# Altium footprint library Capacitors THD.PcbLib: 270 footprints (part 14 of 17)
Each footprint in its own frame and in the unit in brackets; x right, y up, seen from the top. Pads: shape width x height; smd on the part's side, far side on the other; paste and mask are expansions set on the pad; w line width, h text height; cw(c..) or ccw(c..) is an arc to the next point about the centre after c.
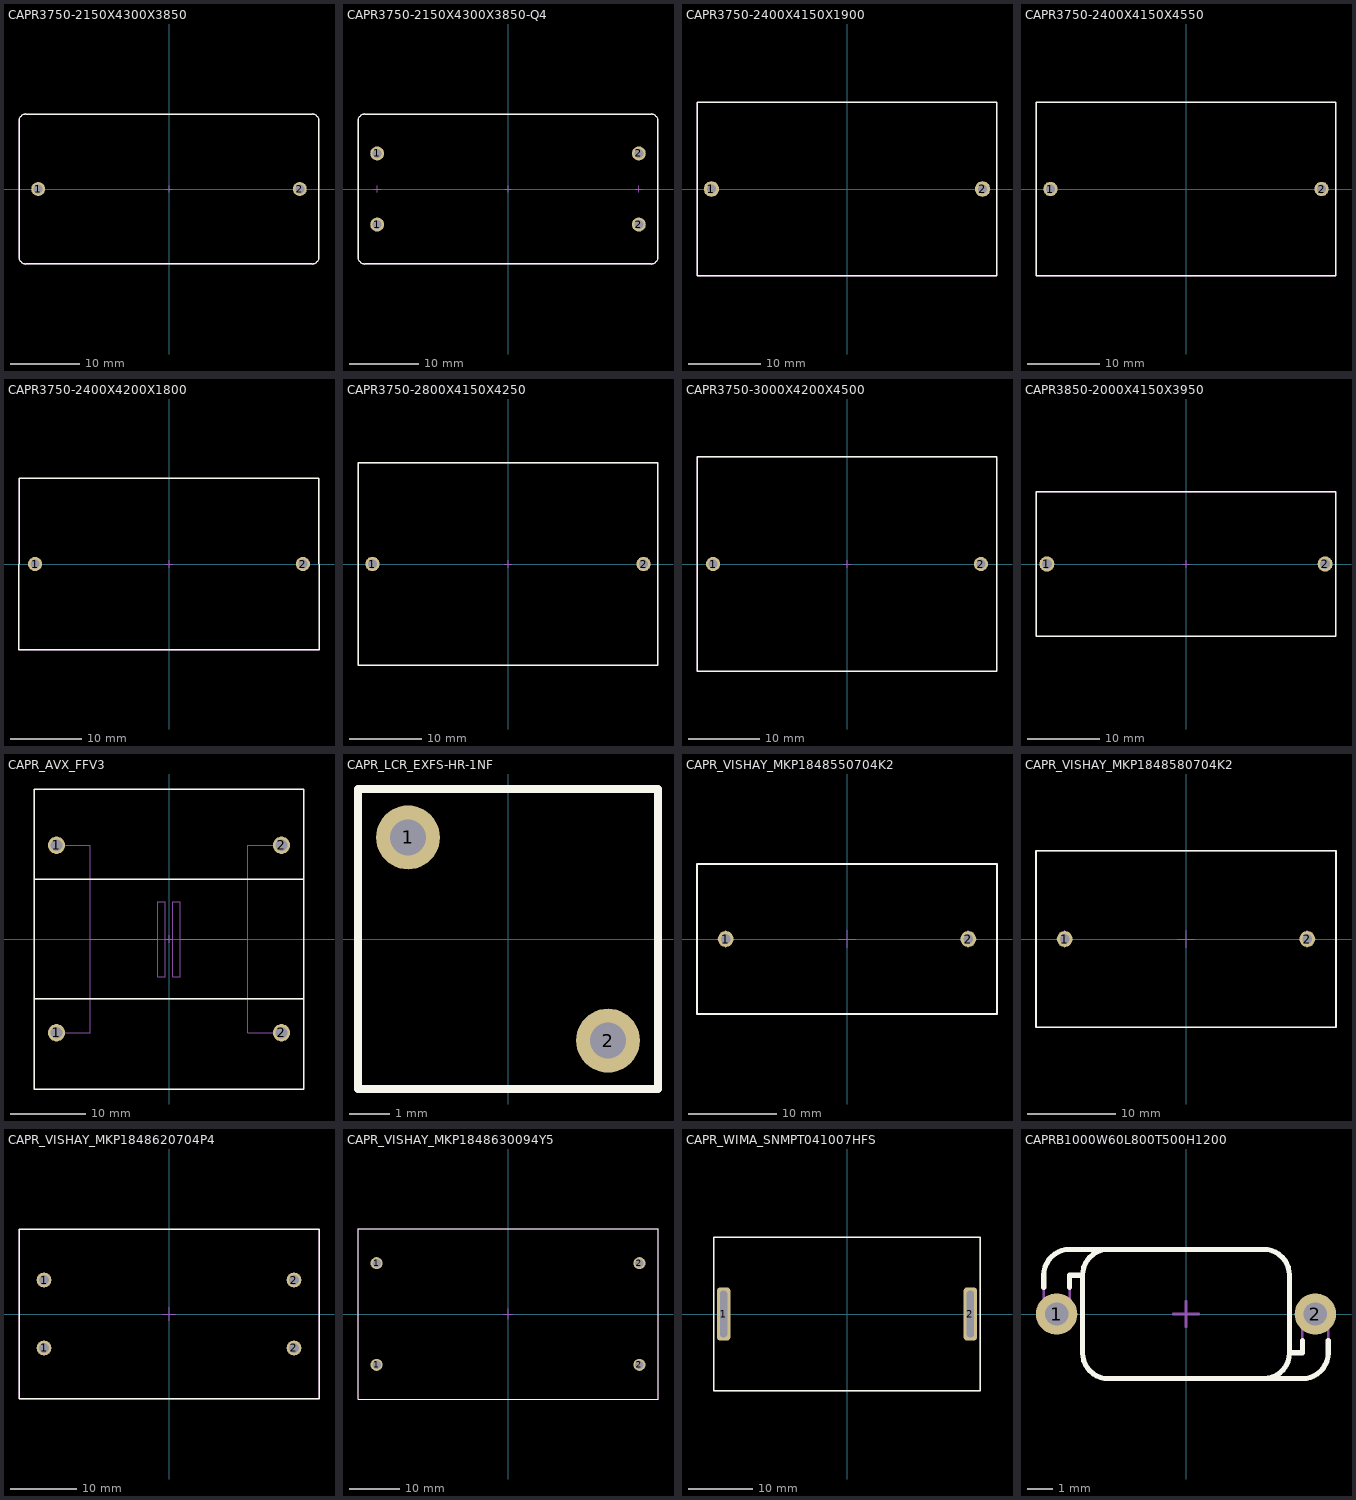
[diagram p13: the footprints below, top view; thin cyan lines are the x and y axes]

## CAPR3750-2150X4300X3850 [mm] "Capacitor Radial, Pin spacing 37.5mm, Body Width 21.5mm X Body Length 43mm X Body Height 38.5mm"
height 38.5
pads (2):
  round 2 hole 1.3: 1(-18.75,0) 2(18.75,0)
Top Overlay:
  lines w0.2: -21.5,-9.75 ccw(c-20.5,-9.75) -20.5,-10.75 20.5,-10.75 ccw(c20.5,-9.75) 21.5,-9.75 21.5,9.75 ccw(c20.5,9.75) 20.5,10.75 -20.5,10.75 ccw(c-20.5,9.75) -21.5,9.75 -21.5,-9.75
Mechanical 8:
  lines w0.05: -19.25,0 -18.75,0 ; -18.75,-0.5 -18.75,0 ; -18.75,0.5 -18.75,0 ; -18.25,0 -18.75,0 ; -0.5,0 0,0 ; 0,-0.5 0,0 ; 0,0.5 0,0 ; 0.5,0 0,0 ; 18.25,0 18.75,0 ; 18.75,-0.5 18.75,0 ; 18.75,0.5 18.75,0 ; 19.25,0 18.75,0
Mechanical 14:
  lines w0.1: -21.5,-9.75 ccw(c-20.5,-9.75) -20.5,-10.75 20.5,-10.75 ccw(c20.5,-9.75) 21.5,-9.75 21.5,9.75 ccw(c20.5,9.75) 20.5,10.75 -20.5,10.75 ccw(c-20.5,9.75) -21.5,9.75 -21.5,-9.75
3D body "CAPR3750-2150X4300X3850.stp": height 38.5, standoff -3.8, extent -21.5,-10.75 21.5,10.75

## CAPR3750-2150X4300X3850-Q4 [mm] "Capacitor Radial, 4 Pin spacing 37.5mm X 10.2mm, Body Width 21.5mm X Body Length 43mm X Body Height 38.5mm"
height 38.5
pads (4):
  round 2 hole 1.3: 1(-18.75,-5.1) 1(-18.75,5.1) 2(18.75,-5.1) 2(18.75,5.1)
Top Overlay:
  lines w0.2: -21.5,-9.75 ccw(c-20.5,-9.75) -20.5,-10.75 20.5,-10.75 ccw(c20.5,-9.75) 21.5,-9.75 21.5,9.75 ccw(c20.5,9.75) 20.5,10.75 -20.5,10.75 ccw(c-20.5,9.75) -21.5,9.75 -21.5,-9.75
Mechanical 8:
  lines w0.05: -19.25,-5.1 -18.75,-5.1 ; -19.25,0 -18.75,0 ; -19.25,5.1 -18.75,5.1 ; -18.75,-5.6 -18.75,-5.1 ; -18.75,-4.6 -18.75,-5.1 ; -18.75,-0.5 -18.75,0 ; -18.75,0.5 -18.75,0 ; -18.75,4.6 -18.75,5.1 ; -18.75,5.6 -18.75,5.1 ; -18.25,-5.1 -18.75,-5.1 ; -18.25,0 -18.75,0 ; -18.25,5.1 -18.75,5.1 ; -0.5,0 0,0 ; 0,-0.5 0,0 ; 0,0.5 0,0 ; 0.5,0 0,0 ; 18.25,-5.1 18.75,-5.1 ; 18.25,0 18.75,0 ; 18.25,5.1 18.75,5.1 ; 18.75,-5.6 18.75,-5.1 ; 18.75,-4.6 18.75,-5.1 ; 18.75,-0.5 18.75,0 ; 18.75,0.5 18.75,0 ; 18.75,4.6 18.75,5.1 ; 18.75,5.6 18.75,5.1 ; 19.25,-5.1 18.75,-5.1 ; 19.25,0 18.75,0 ; 19.25,5.1 18.75,5.1
Mechanical 14:
  lines w0.1: -21.5,-9.75 ccw(c-20.5,-9.75) -20.5,-10.75 20.5,-10.75 ccw(c20.5,-9.75) 21.5,-9.75 21.5,9.75 ccw(c20.5,9.75) 20.5,10.75 -20.5,10.75 ccw(c-20.5,9.75) -21.5,9.75 -21.5,-9.75
3D body "CAPR3750-2150X4300X3850-Q4.stp": height 38.5, standoff -3.8, extent -21.5,-10.75 21.5,10.75

## CAPR3750-2400X4150X1900 [mm] "Capacitor Radial, Pin spacing 37.5mm - Body With 24mm X Body Length 41.5mm X Body Height 19mm"
height 19
pads (2):
  round 2.15 hole 1.3: 1(-18.75,0) 2(18.75,0)
Top Overlay:
  lines w0.2: -20.75,-12 20.75,-12 20.75,12 -20.75,12 -20.75,-12
Mechanical 13:
  lines w0.1: -20.75,-12 -20.75,12 20.75,12 20.75,-12 -20.75,-12
Mechanical 14:
  lines w0.1: -20.75,-12 20.75,-12 20.75,12 -20.75,12 -20.75,-12
3D body "CAPR3750-2400X4150X1900.stp": height 19, standoff -3.8, extent -20.75,-12 20.75,12

## CAPR3750-2400X4150X4550 [mm] "Capacitor Radial, Pin spacing 37.5mm - Body With 24mm X Body Length 41.5mm X Body Height 45.5mm"
height 45.5
pads (2):
  round 2 hole 1.3: 1(-18.75,0) 2(18.75,0)
Top Overlay:
  lines w0.2: -20.75,-12 20.75,-12 20.75,12 -20.75,12 -20.75,-12
Mechanical 13:
  lines w0.1: -20.75,-12 -20.75,12 20.75,12 20.75,-12 -20.75,-12
Mechanical 14:
  lines w0.1: -20.75,-12 20.75,-12 20.75,12 -20.75,12 -20.75,-12
3D body "CAPR3750-2400X4150X4550.stp": height 45.5, standoff -3.8, extent -20.75,-12 20.75,12

## CAPR3750-2400X4200X1800 [mm] "Capacitor Radial, Pin spacing 37.5mm - Body With 24mm X Body Length 42mm X Body Height 18mm"
height 18
pads (2):
  round 2 hole 1.3: 1(-18.75,0) 2(18.75,0)
Top Overlay:
  lines w0.2: -21,-12 21,-12 20.994,12 -20.994,12 -21,-12
Mechanical 8:
  lines w0.1: -19.25,0 -18.75,0 ; -18.75,-0.5 -18.75,0 ; -18.75,0.5 -18.75,0 ; -18.25,0 -18.75,0 ; -0.5,0 0,0 ; 0,-0.5 0,0 ; 0,0.5 0,0 ; 0.5,0 0,0 ; 18.25,0 18.75,0 ; 18.75,-0.5 18.75,0 ; 18.75,0.5 18.75,0 ; 19.25,0 18.75,0
Mechanical 14:
  lines w0.1: -21,-12 21,-12 20.994,12 -20.994,12 -21,-12
3D body "CAPR3750-2400X4200X1800.stp": height 18, standoff -3.2, extent -21,-12 21,12

## CAPR3750-2800X4150X4250 [mm] "Capacitor Radial, Pin spacing 37.5mm - Body With 28mm X Body Length 41.5mm X Body Height 42.5mm"
height 42.5
pads (2):
  round 2 hole 1.3: 1(-18.75,0) 2(18.75,0)
Top Overlay:
  lines w0.2: -20.75,-14 20.75,-14 20.75,14 -20.75,14 -20.75,-14
Mechanical 8:
  lines w0.1: -19.25,0 -18.75,0 ; -18.75,-0.5 -18.75,0 ; -18.75,0.5 -18.75,0 ; -18.25,0 -18.75,0 ; -0.5,0 0,0 ; 0,-0.5 0,0 ; 0,0.5 0,0 ; 0.5,0 0,0 ; 18.25,0 18.75,0 ; 18.75,-0.5 18.75,0 ; 18.75,0.5 18.75,0 ; 19.25,0 18.75,0
Mechanical 14:
  lines w0.1: -20.75,-14 20.75,-14 20.75,14 -20.75,14 -20.75,-14
3D body "CAPR3750-2800X4150X4250.stp": height 42.5, standoff -3.8, extent -20.75,-14 20.75,14

## CAPR3750-3000X4200X4500 [mm] "Capacitor Radial, Pin spacing 37.5mm, Body Width 30mm X Body Length 42mm X Body Height 45mm"
height 45
pads (2):
  round 2 hole 1.3: 1(-18.75,0) 2(18.75,0)
Top Overlay:
  lines w0.2: -21,-15 21,-15 21,15 -21,15 -21,-15
Mechanical 8:
  lines w0.1: -0.5,0 0,0 ; 0,-0.5 0,0 ; 0,0.5 0,0 ; 0.5,0 0,0
Mechanical 14:
  lines w0.1: -21,-15 21,-15 21,15 -21,15 -21,-15
3D body "CAPR3750-3000X4200X4500.stp": height 45, standoff -3.8, extent -21,-15 21,15

## CAPR3850-2000X4150X3950 [mm] "Capacitor Radial, Pin spacing 38.5mm - Body With 20mm X Body Length 41.5mm X Body Height 39.5mm"
height 39.5
pads (2):
  round 2.1 hole 1.4: 1(-19.25,0) 2(19.25,0)
Top Overlay:
  lines w0.2: -20.75,-10 20.75,-10 20.75,10 -20.75,10 -20.75,-10
Mechanical 8:
  lines w0.05: -19.75,0 -19.25,0 ; -19.25,-0.5 -19.25,0 ; -19.25,0.5 -19.25,0 ; -18.75,0 -19.25,0 ; -0.5,0 0,0 ; 0,-0.5 0,0 ; 0,0.5 0,0 ; 0.5,0 0,0 ; 18.75,0 19.25,0 ; 19.25,-0.5 19.25,0 ; 19.25,0.5 19.25,0 ; 19.75,0 19.25,0
Mechanical 14:
  lines w0.1: -20.75,-10 20.75,-10 20.75,10 -20.75,10 -20.75,-10
3D body "CAPR3850-2000X4150X3950.stp": height 39.5, standoff -3.69, extent -20.75,-10 20.75,10

## CAPR_AVX_FFV3 [mm] "Capacitor Radial, 4 Pin spacing 30mm X 25mm, Body Width 36mm X Body Length 40mm X Body Height 40mm"
height 40
pads (4):
  round 2.3 hole 1.6: 1(-15,-12.5) 1(-15,12.5) 2(15,-12.5) 2(15,12.5)
Top Overlay:
  lines w0.2: -18,-8 18,-8 ; -18,8 18,8 ; -18,-20 -18,20 18,20 18,-20 -18,-20
Mechanical 8:
  lines w0.05: -0.5,0 0,0 ; 0,-0.5 0,0 ; 0,0.5 0,0 ; 0.5,0 0,0
  lines w0.1: -15.5,-12.5 -15,-12.5 ; -15.5,12.5 -15,12.5 ; -15,-13 -15,-12.5 ; -15,-12 -15,-12.5 ; -15,12 -15,12.5 ; -15,13 -15,12.5 ; -14.5,-12.5 -15,-12.5 ; -14.5,12.5 -15,12.5 ; -10.5,0 -1.5,0 ; -0.5,0 0,0 ; 0,-0.5 0,0 ; 0,0.5 0,0 ; 0.5,0 0,0 ; 1.5,0 10.5,0 ; 14.5,-12.5 15,-12.5 ; 14.5,12.5 15,12.5 ; 15,-13 15,-12.5 ; 15,-12 15,-12.5 ; 15,12 15,12.5 ; 15,13 15,12.5 ; 15.5,-12.5 15,-12.5 ; 15.5,12.5 15,12.5 ; -15,-12.5 -10.5,-12.5 -10.5,12.5 -15,12.5 ; 15,-12.5 10.5,-12.5 10.5,12.5 15,12.5 ; -1.5,-5 -1.5,5 -0.5,5 -0.5,-5 -1.5,-5 ; 0.5,-5 0.5,5 1.5,5 1.5,-5 0.5,-5
Mechanical 14:
  lines w0.1: -18,-8 18,-8 ; -18,8 18,8 ; -18,-20 18,-20 18,20 -18,20 -18,-20
3D body "CAPR_AVX_FFV3.stp": height 40, standoff -4.5, extent -18,-20 18,20

## CAPR_LCR_EXFS-HR-1NF [mm] "Capacitor Radial, Pin spacing 5.08mm X 5.08mm - Body With 7.5mm X Body Length 7.5mm X Body Height 13mm"
height 9
pads (2):
  round 1.6 hole 0.9: 1(-2.5,2.54) 2(2.5,-2.54)
Top Overlay:
  lines w0.2: -3.75,-3.75 3.75,-3.75 3.75,3.75 -3.75,3.75 -3.75,-3.75
Mechanical 14:
  lines w0.1: -3.75,-3.75 3.75,-3.75 3.75,3.75 -3.75,3.75 -3.75,-3.75
3D body "CAPR_LCR_EXFS-HR-1NF.stp": height 13, standoff -3.6, extent -3.749,-3.749 3.751,3.751

## CAPR_VISHAY_MKP1848550704K2 [mm] "Capacitor Radial, Pin spacing 27.5mm - Body With 15mm X Body Length 32mm X Body Height 25.5mm"
height 25.5
pads (2):
  round 1.8 hole 1.1: 1(-13.75,0) 2(13.75,0)
Top Overlay:
  lines w0.2: -17,-8.5 17,-8.5 17,8.5 -17,8.5 -17,-8.5
Mechanical 8:
  lines w0.05: -14.75,0 -13.75,0 ; -13.75,-1 -13.75,0 ; -13.75,1 -13.75,0 ; -12.75,0 -13.75,0 ; -1,0 0,0 ; 0,-1 0,0 ; 0,1 0,0 ; 1,0 0,0 ; 12.75,0 13.75,0 ; 13.75,-1 13.75,0 ; 13.75,1 13.75,0 ; 14.75,0 13.75,0
Mechanical 14:
  lines w0.1: -17,-8.5 17,-8.5 17,8.5 -17,8.5 -17,-8.5
3D body "CAPR_VISHAY_MKP1848550704K2.stp": height 25.5, standoff -4, extent -17,-8.5 17,8.5

## CAPR_VISHAY_MKP1848580704K2 [mm] "Capacitor Radial, Pin spacing 27.5mm - Body With 18mm X Body Length 32mm X Body Height 28.5mm"
height 28.5
pads (2):
  round 1.8 hole 1.1: 1(-13.75,0) 2(13.75,0)
Top Overlay:
  lines w0.2: -17,-10 17,-10 17,10 -17,10 -17,-10
Mechanical 8:
  lines w0.05: -14.75,0 -13.75,0 ; -13.75,-1 -13.75,0 ; -13.75,1 -13.75,0 ; -12.75,0 -13.75,0 ; -1,0 0,0 ; 0,-1 0,0 ; 0,1 0,0 ; 1,0 0,0 ; 12.75,0 13.75,0 ; 13.75,-1 13.75,0 ; 13.75,1 13.75,0 ; 14.75,0 13.75,0
Mechanical 14:
  lines w0.1: -17,-10 17,-10 17,10 -17,10 -17,-10
3D body "CAPR_VISHAY_MKP1848580704K2.stp": height 25.5, standoff -4, extent -17,-10 17,10

## CAPR_VISHAY_MKP1848620704P4 [mm] "Capacitor Radial, Pin spacing 37.5.5X10.2mm - Body With 21.5mm X Body Length 43mm X Body Height 39mm"
height 39
pads (4):
  round 2.2 hole 1.5: 1(-18.75,-5.1) 1(-18.75,5.1) 2(18.75,-5.1) 2(18.75,5.1)
Top Overlay:
  lines w0.2: -22.5,-12.75 -22.5,12.75 22.5,12.75 22.5,-12.75 -22.5,-12.75
Mechanical 8:
  lines w0.1: -19.75,-5.1 -18.75,-5.1 ; -19.75,5.1 -18.75,5.1 ; -18.75,-6.1 -18.75,-5.1 ; -18.75,-4.1 -18.75,-5.1 ; -18.75,4.1 -18.75,5.1 ; -18.75,6.1 -18.75,5.1 ; -17.75,-5.1 -18.75,-5.1 ; -17.75,5.1 -18.75,5.1 ; -1,0 0,0 ; 0,-1 0,0 ; 0,1 0,0 ; 1,0 0,0 ; 17.75,-5.1 18.75,-5.1 ; 17.75,5.1 18.75,5.1 ; 18.75,-6.1 18.75,-5.1 ; 18.75,-4.1 18.75,-5.1 ; 18.75,4.1 18.75,5.1 ; 18.75,6.1 18.75,5.1 ; 19.75,-5.1 18.75,-5.1 ; 19.75,5.1 18.75,5.1
Mechanical 14:
  lines w0.1: -22.5,-12.75 -22.5,12.75 22.5,12.75 22.5,-12.75 -22.5,-12.75
3D body "CAPR_VISHAY_MKP1848620704P4.stp": height 39, standoff -4, extent -22.5,-12.75 22.5,12.75

## CAPR_VISHAY_MKP1848630094Y5 [mm] "Capacitor Radial, Pin spacing 52.5X20.3mm - Body With 30mm X Body Length 57.5mm X Body Height 45mm"
height 45
pads (4):
  round 2.4 hole 1.7: 1(-26.25,-10.15) 1(-26.25,10.15) 2(26.25,-10.15) 2(26.25,10.15)
Top Overlay:
  lines w0.2: -29.95,-17 29.95,-17 29.95,17 -29.95,17 -29.95,-17
Mechanical 8:
  lines w0.1: -26.25,-10.15 -26.25,-9.15 -26.25,-10.15 ; -26.25,-10.15 -25.25,-10.15 -26.25,-10.15 ; -26.25,-10.15 -27.25,-10.15 -26.25,-10.15 ; -26.25,-10.15 -26.25,-11.15 -26.25,-10.15 ; -26.25,10.15 -26.25,11.15 -26.25,10.15 ; -26.25,10.15 -25.25,10.15 -26.25,10.15 ; -26.25,10.15 -27.25,10.15 -26.25,10.15 ; -26.25,10.15 -26.25,9.15 -26.25,10.15 ; 0,0 0,1 0,0 ; 0,0 1,0 0,0 ; 0,0 -1,0 0,0 ; 0,0 0,-1 0,0 ; 26.25,-10.15 26.25,-9.15 26.25,-10.15 ; 26.25,-10.15 27.25,-10.15 26.25,-10.15 ; 26.25,-10.15 25.25,-10.15 26.25,-10.15 ; 26.25,-10.15 26.25,-11.15 26.25,-10.15 ; 26.25,10.15 26.25,11.15 26.25,10.15 ; 26.25,10.15 27.25,10.15 26.25,10.15 ; 26.25,10.15 25.25,10.15 26.25,10.15 ; 26.25,10.15 26.25,9.15 26.25,10.15
Mechanical 14:
  lines w0.1: -29.95,-17 29.95,-17 29.95,17 -29.95,17 -29.95,-17
3D body "CAPR_VISHAY_MKP1848630094Y5.stp": height 45.5, standoff -4, extent -29.95,-17 29.95,17

## CAPR_WIMA_SNMPT041007HFS [mm] "Capacitor Radial, Rectangular Pin spacing 38.5mm - Body With 24mm X Body Length 41.5mm X Body Height 45.5mm"
height 45.5
pads (2):
  rrect50% 2.1x8.3 hole 1.1 slot 7.3 at 90 deg: 1(-19.25,0) 2(19.25,0)
Top Overlay:
  lines w0.2: -20.75,-12 20.75,-12 20.75,12 -20.75,12 -20.75,-12
Mechanical 13:
  lines w0.1: -20.75,-12 -20.75,12 20.75,12 20.75,-12 -20.75,-12
Mechanical 14:
  lines w0.1: -20.75,-12 20.75,-12 20.75,12 -20.75,12 -20.75,-12
3D body "CAPR_WIMA_SNMPT041007HFS.stp": height 45.5, standoff -8.1, extent -20.75,-12 20.75,12

## CAPRB1000W60L800T500H1200 [mm] "Capacitor Radial Disk Button, Lead spacing 10mm - Body Diameter 8mm X Body Width 5mm X Body Height 12mm"
height 12
pads (2):
  round 1.6 hole 0.9: 1(-5,0) 2(5,0)
Top Overlay:
  lines w0.2: -5.5,1.036 -5.5,1.5 cw(c-4.5,1.5) -4.5,2.5 -2.772,2.5 ; -4.5,1.036 -4.5,1.5 -4,1.5 ; 2.772,-2.5 4.5,-2.5 ccw(c4.5,-1.5) 5.5,-1.5 5.5,-1.036 ; 4.5,-1.036 4.5,-1.5 4,-1.5 ; -4,1.5 cw(c-3,1.5) -3,2.5 3,2.5 cw(c3,1.5) 4,1.5 4,-1.5 ; -4,1.5 -4,-1.5 ccw(c-3,-1.5) -3,-2.5 3,-2.5 ccw(c3,-1.5) 4,-1.5
Mechanical 8:
  lines w0.1: -5.5,0 -5,0 ; -5,-0.5 -5,0 ; -5,0.5 -5,0 ; -4.5,0 -5,0 ; -0.5,0 0,0 ; 0,-0.5 0,0 ; 0,0.5 0,0 ; 0.5,0 0,0 ; 4.5,0 5,0 ; 5,-0.5 5,0 ; 5,0.5 5,0 ; 5.5,0 5,0
Mechanical 14:
  lines w0.1: -2.772,2.5 -4.5,2.5 ccw(c-4.5,1.5) -5.5,1.5 -5.5,0 ccw(c-5,0) -4.5,0 -4.5,1.5 -4,1.5 ; 2.772,-2.5 4.5,-2.5 ccw(c4.5,-1.5) 5.5,-1.5 5.5,0 ccw(c5,0) 4.5,0 4.5,-1.5 4,-1.5 ; -4,1.5 cw(c-3,1.5) -3,2.5 3,2.5 cw(c3,1.5) 4,1.5 4,-1.5 ; -4,1.5 -4,-1.5 ccw(c-3,-1.5) -3,-2.5 3,-2.5 ccw(c3,-1.5) 4,-1.5
3D body "CAPRB1000W60L800T500H1200.stp": height 12, standoff -3.6, extent -5.5,-2.5 5.5,2.5